# Altium schematic symbol library PCA9450BHNY.SchLib: 2 symbols
Pins are listed as number, name and electrical type; pins without a type are passive.

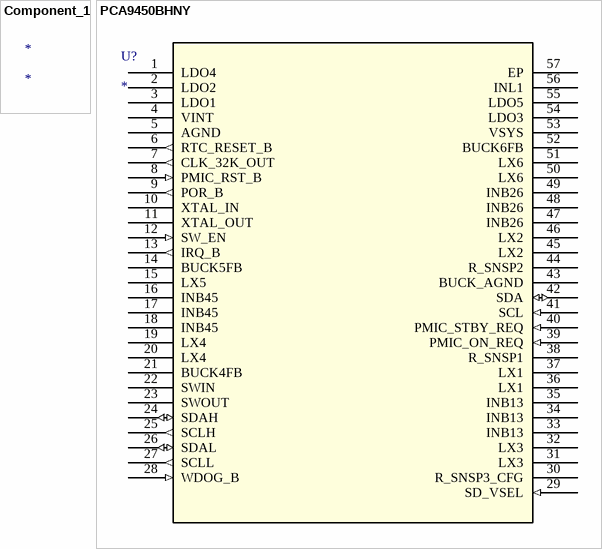
[diagram p0: symbols Component_1 to PCA9450BHNY]

## Component_1
designator *

## PCA9450BHNY
designator U?
No Description Available; Mfr_Name: NXP; RefDes: RefDes; Type: Type
footprint HVQFN56_SOT949-6_NXP
pins: 1 LDO4 (power), 2 LDO2 (power), 3 LDO1 (power), 4 VINT (power), 5 AGND (power), 6 RTC_RESET_B (out), 7 CLK_32K_OUT (out), 8 PMIC_RST_B (in), 9 POR_B (out), 10 XTAL_IN, 11 XTAL_OUT, 12 SW_EN (in), 13 IRQ_B (out), 14 BUCK5FB, 15 LX5 (power), 16 INB45 (power), 17 INB45 (power), 18 INB45 (power), 19 LX4 (power), 20 LX4 (power), 21 BUCK4FB, 22 SWIN (power), 23 SWOUT (power), 24 SDAH (io), 25 SCLH (out), 26 SDAL (io), 27 SCLL (out), 28 WDOG_B (in), 29 SD_VSEL (in), 30 R_SNSP3_CFG, 31 LX3 (power), 32 LX3 (power), 33 INB13 (power), 34 INB13 (power), 35 INB13 (power), 36 LX1 (power), 37 LX1 (power), 38 R_SNSP1, 39 PMIC_ON_REQ (in), 40 PMIC_STBY_REQ (in), 41 SCL (in), 42 SDA (io), 43 BUCK_AGND (power), 44 R_SNSP2, 45 LX2 (power), 46 LX2 (power), 47 INB26 (power), 48 INB26 (power), 49 INB26 (power), 50 LX6 (power), 51 LX6 (power), 52 BUCK6FB, 53 VSYS (power), 54 LDO3 (power), 55 LDO5 (power), 56 INL1 (power), 57 EP (power)